# Altium footprint library SMCJ75A-13-F.PcbLib: 3 footprints
Each footprint in its own frame and in the unit in brackets; x right, y up, seen from the top. Pads: shape width x height; smd on the part's side, far side on the other; paste and mask are expansions set on the pad; w line width, h text height; cw(c..) or ccw(c..) is an arc to the next point about the centre after c.
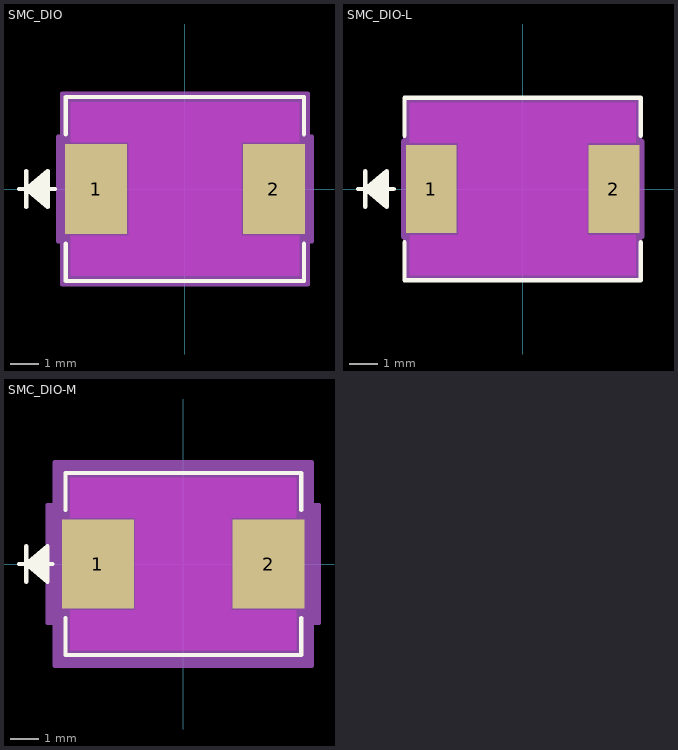
[diagram p0: the footprints below, top view; thin cyan lines are the x and y axes]

## SMC_DIO [mm]
pads (2):
  rect 2.18x3.18 smd paste+0 mask+0: 1(-3.127,0) 2(3.127,0)
Top Layer keep-out:
  region: -1.986,-1.641 -1.986,1.641 1.986,1.641 1.986,-1.641
  region: -4.014,1.641 -4.014,3.059 4.014,3.059 4.014,1.641
  region: -4.014,-3.059 -4.014,-1.641 4.014,-1.641 4.014,-3.059
Top Overlay:
  lines w0.152: -5.843,0 -4.573,0 ; -5.589,-0.635 -5.589,0.635 ; -4.827,-0.508 -5.589,0 ; -4.827,-0.381 -5.589,0 ; -4.827,-0.254 -5.589,0 ; -4.827,-0.127 -5.589,0 ; -4.827,0.127 -5.589,0 ; -4.827,0.254 -5.589,0 ; -4.827,0.381 -5.589,0 ; -4.827,0.508 -5.589,0 ; -4.192,-1.923 -4.192,-3.237 4.192,-3.237 4.192,-1.923 ; -4.192,1.923 -4.192,3.237 4.192,3.237 4.192,1.923 ; -5.589,0 -4.827,0.635 -4.827,-0.635 -5.589,0
Keep-Out Layer:
  region: -1.986,-1.641 -1.986,1.641 1.986,1.641 1.986,-1.641
Mechanical 13:
  lines w0.025: -5.843,0 -4.573,0 ; -5.589,-0.635 -5.589,0.635 ; -4.827,-0.508 -5.589,0 ; -4.827,-0.381 -5.589,0 ; -4.827,-0.254 -5.589,0 ; -4.827,-0.127 -5.589,0 ; -4.827,0.127 -5.589,0 ; -4.827,0.254 -5.589,0 ; -4.827,0.381 -5.589,0 ; -4.827,0.508 -5.589,0 ; -5.589,0 -4.827,0.635 -4.827,-0.635 -5.589,0 ; -4.065,-3.11 4.065,-3.11 4.065,3.11 -4.065,3.11 -4.065,-3.11
Mechanical 15:
  region: -4.319,-1.844 -4.471,-1.844 -4.471,1.844 -4.319,1.844 -4.319,3.364 4.319,3.364 4.319,1.844 4.471,1.844 4.471,-1.844 4.319,-1.844 4.319,-3.364 -4.319,-3.364
  lines w0.152: -4.471,-1.844 -4.471,1.844 -4.319,1.844 -4.319,3.364 4.319,3.364 4.319,1.844 4.471,1.844 4.471,-1.844 4.319,-1.844 4.319,-3.364 -4.319,-3.364 -4.319,-1.844 -4.471,-1.844
3D body "SMC_DIO.step": height 2.45, standoff 0, extent -4.065,-3.11 4.065,3.11

## SMC_DIO-L [mm]
pads (2):
  rect 1.799x3.129 smd paste+0 mask+0: 1(-3.241,0) 2(3.241,0)
Top Layer keep-out:
  region: -2.291,-1.641 -2.291,1.641 2.291,1.641 2.291,-1.641
  region: -4.014,1.641 -4.014,3.059 4.014,3.059 4.014,1.641
  region: -4.014,-3.059 -4.014,-1.641 4.014,-1.641 4.014,-3.059
Top Overlay:
  lines w0.152: -5.843,0 -4.573,0 ; -5.589,-0.635 -5.589,0.635 ; -4.827,-0.508 -5.589,0 ; -4.827,-0.381 -5.589,0 ; -4.827,-0.254 -5.589,0 ; -4.827,-0.127 -5.589,0 ; -4.827,0.127 -5.589,0 ; -4.827,0.254 -5.589,0 ; -4.827,0.381 -5.589,0 ; -4.827,0.508 -5.589,0 ; -4.192,-1.893 -4.192,-3.237 4.192,-3.237 4.192,-1.893 ; -4.192,1.893 -4.192,3.237 4.192,3.237 4.192,1.893 ; -5.589,0 -4.827,0.635 -4.827,-0.635 -5.589,0
Keep-Out Layer:
  region: -2.291,-1.641 -2.291,1.641 2.291,1.641 2.291,-1.641
Mechanical 13:
  lines w0.025: -5.843,0 -4.573,0 ; -5.589,-0.635 -5.589,0.635 ; -4.827,-0.508 -5.589,0 ; -4.827,-0.381 -5.589,0 ; -4.827,-0.254 -5.589,0 ; -4.827,-0.127 -5.589,0 ; -4.827,0.127 -5.589,0 ; -4.827,0.254 -5.589,0 ; -4.827,0.381 -5.589,0 ; -4.827,0.508 -5.589,0 ; -5.589,0 -4.827,0.635 -4.827,-0.635 -5.589,0 ; -4.065,-3.11 4.065,-3.11 4.065,3.11 -4.065,3.11 -4.065,-3.11
Mechanical 15:
  region: -4.167,-1.692 -4.243,-1.692 -4.243,1.692 -4.167,1.692 -4.167,3.212 4.167,3.212 4.167,1.692 4.243,1.692 4.243,-1.692 4.167,-1.692 4.167,-3.212 -4.167,-3.212
  lines w0.152: -4.243,-1.692 -4.243,1.692 -4.167,1.692 -4.167,3.212 4.167,3.212 4.167,1.692 4.243,1.692 4.243,-1.692 4.167,-1.692 4.167,-3.212 -4.167,-3.212 -4.167,-1.692 -4.243,-1.692
3D body "SMC_DIO.step": height 2.45, standoff 0, extent -4.065,-3.11 4.065,3.11

## SMC_DIO-M [mm]
pads (2):
  rect 2.561x3.18 smd paste+0 mask+0: 1(-3.038,0) 2(3.038,0)
Top Layer keep-out:
  region: -1.707,-1.641 -1.707,1.641 1.707,1.641 1.707,-1.641
  region: -4.014,1.641 -4.014,3.059 4.014,3.059 4.014,1.641
  region: -4.014,-3.059 -4.014,-1.641 4.014,-1.641 4.014,-3.059
Top Overlay:
  lines w0.152: -5.843,0 -4.652,0 ; -5.589,-0.635 -5.589,0.635 ; -4.827,-0.508 -5.589,0 ; -4.827,-0.381 -5.589,0 ; -4.827,-0.254 -5.589,0 ; -4.827,-0.127 -5.589,0 ; -4.827,0.127 -5.589,0 ; -4.827,0.254 -5.589,0 ; -4.827,0.381 -5.589,0 ; -4.827,0.508 -5.589,0 ; -4.192,-1.923 -4.192,-3.237 4.192,-3.237 4.192,-1.923 ; -4.192,1.923 -4.192,3.237 4.192,3.237 4.192,1.923 ; -5.589,0 -4.827,0.635 -4.827,-0.635 -5.589,0
Keep-Out Layer:
  region: -1.707,-1.641 -1.707,1.641 1.707,1.641 1.707,-1.641
Mechanical 13:
  lines w0.025: -5.843,0 -4.573,0 ; -5.589,-0.635 -5.589,0.635 ; -4.827,-0.508 -5.589,0 ; -4.827,-0.381 -5.589,0 ; -4.827,-0.254 -5.589,0 ; -4.827,-0.127 -5.589,0 ; -4.827,0.127 -5.589,0 ; -4.827,0.254 -5.589,0 ; -4.827,0.381 -5.589,0 ; -4.827,0.508 -5.589,0 ; -5.589,0 -4.827,0.635 -4.827,-0.635 -5.589,0 ; -4.065,-3.11 4.065,-3.11 4.065,3.11 -4.065,3.11 -4.065,-3.11
Mechanical 15:
  region: -4.573,-2.098 -4.827,-2.098 -4.827,2.098 -4.573,2.098 -4.573,3.618 4.573,3.618 4.573,2.098 4.827,2.098 4.827,-2.098 4.573,-2.098 4.573,-3.618 -4.573,-3.618
  lines w0.152: -4.827,-2.098 -4.827,2.098 -4.573,2.098 -4.573,3.618 4.573,3.618 4.573,2.098 4.827,2.098 4.827,-2.098 4.573,-2.098 4.573,-3.618 -4.573,-3.618 -4.573,-2.098 -4.827,-2.098
3D body "SMC_DIO.step": height 2.45, standoff 0, extent -4.065,-3.11 4.065,3.11